# Altium schematic symbol library SI4432.SchLib: 1 symbol
Pins are listed as number, name and electrical type; pins without a type are passive.

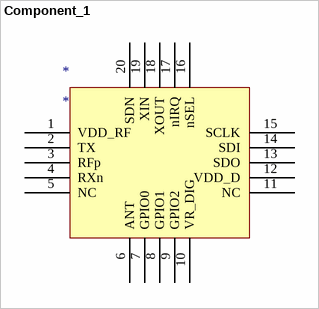
[diagram p0: symbol Component_1]

## Component_1
designator *
pins: 1 VDD_RF, 2 TX, 3 RFp, 4 RXn, 5 NC, 6 ANT, 7 GPIO0, 8 GPIO1, 9 GPIO2, 10 VR_DIG, 11 NC, 12 VDD_D, 13 SDO, 14 SDI, 15 SCLK, 16 nSEL, 17 nIRQ, 18 XOUT, 19 XIN, 20 SDN